# Altium footprint library M39006.PcbLib: 2 footprints
Each footprint in its own frame and in the unit in brackets; x right, y up, seen from the top. Pads: shape width x height; smd on the part's side, far side on the other; paste and mask are expansions set on the pad; w line width, h text height; cw(c..) or ccw(c..) is an arc to the next point about the centre after c.
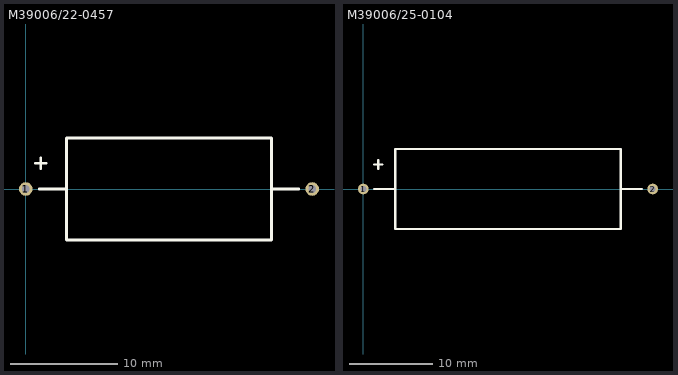
[diagram p0: the footprints below, top view; thin cyan lines are the x and y axes]

## M39006/22-0457 [mil]
pads (2):
  round 50 hole 28: 1(0,0) 2(1055,0)
Top Overlay:
  lines w10: 35,95 75,95 ; 50,0 150,0 ; 55,75 55,115 ; 905,0 1005,0 ; 150,0 150,187.5 905,187.5 905,-187.5 150,-187.5 150,0

## M39006/25-0104 [mil]
pads (2):
  round 50 hole 28: 1(0,0) 2(1360,0)
Top Overlay:
  lines w10: 50,0 150,0 ; 50,115 90,115 ; 70,95 70,135 ; 1210,0 1310,0 ; 150,0 150,-187.5 1210,-187.5 1210,187.5 150,187.5 150,0